# Altium footprint library Imperial_Thru_Hole.PcbLib: 76 footprints (part 3 of 5)
Each footprint in its own frame and in the unit in brackets; x right, y up, seen from the top. Pads: shape width x height; smd on the part's side, far side on the other; paste and mask are expansions set on the pad; w line width, h text height; cw(c..) or ccw(c..) is an arc to the next point about the centre after c.
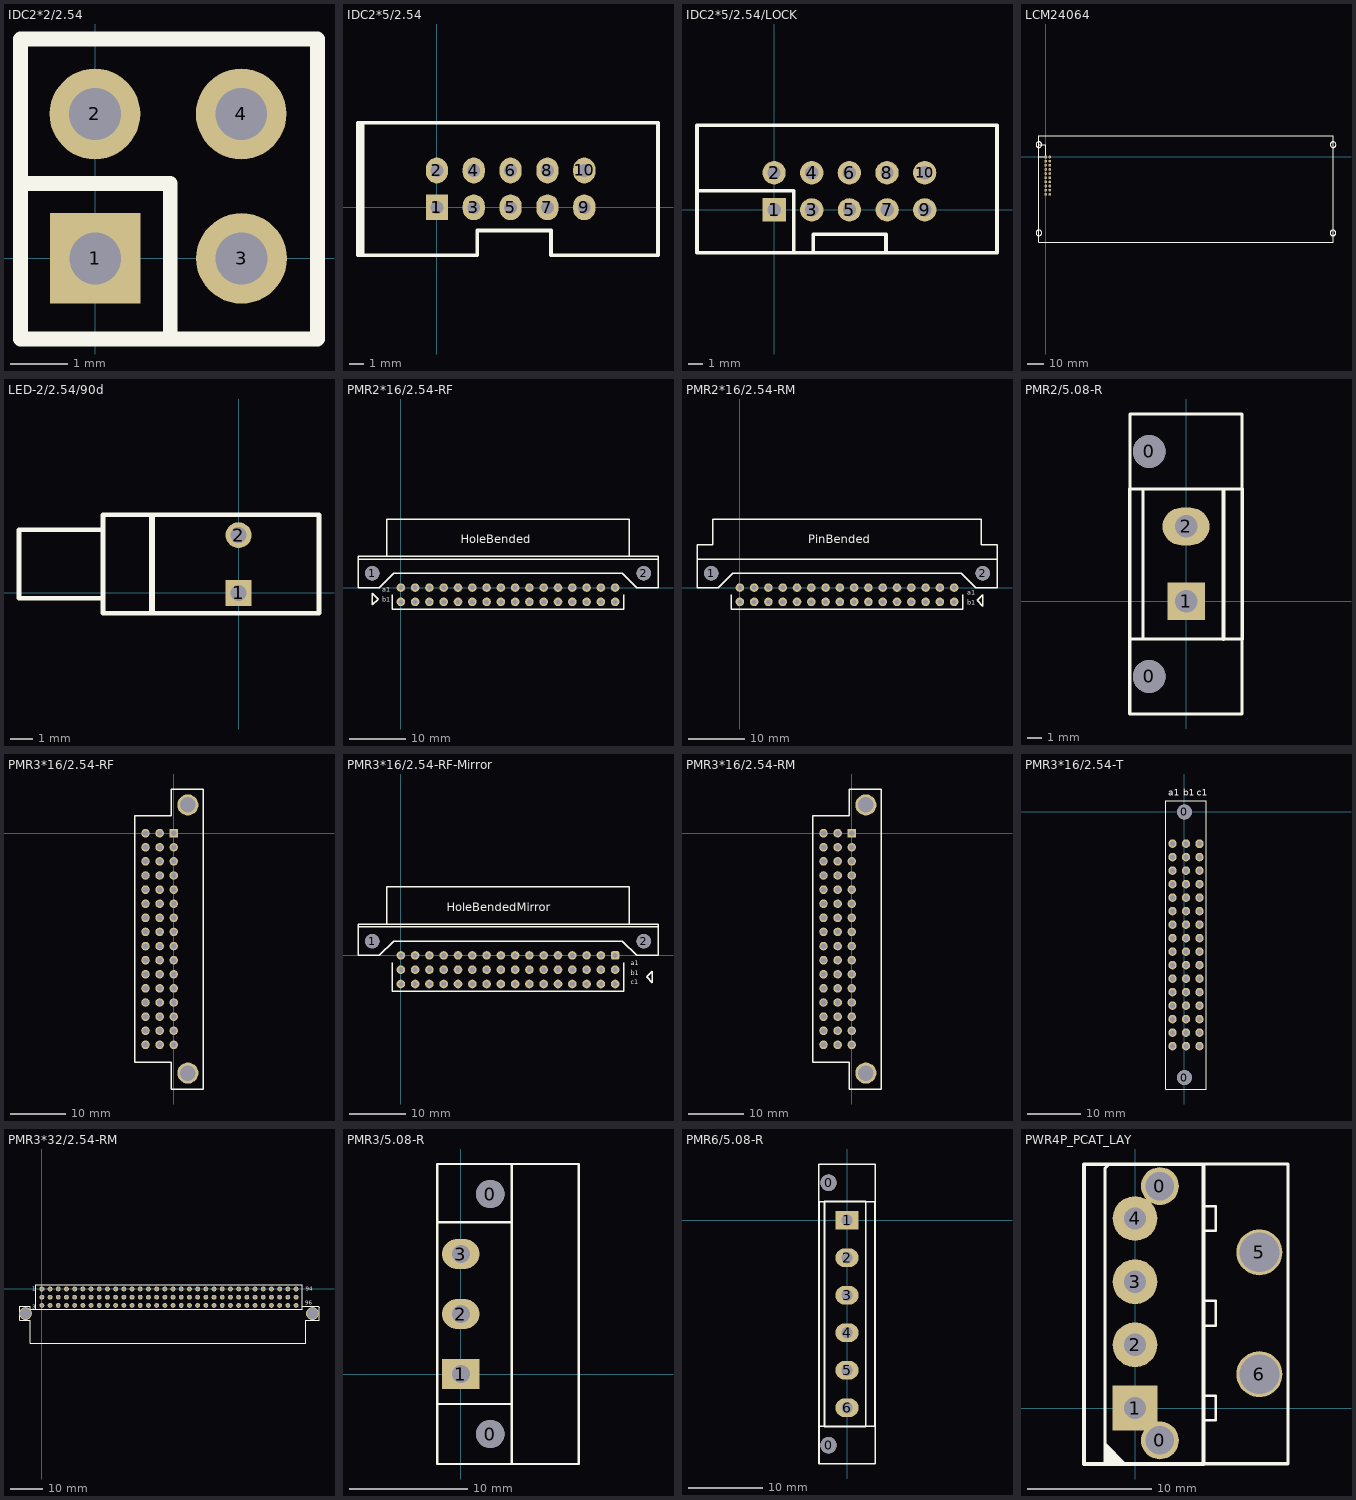
[diagram p2: the footprints below, top view; thin cyan lines are the x and y axes]

## IDC2*2/2.54 [mil] "2.54间距插针, 焊盘:外径1.57mm.孔径0.9mm"
height 314.96
pads (4):
  rect 62x62 hole 35.43: 1(0,0)
  round 62 hole 35.43: 2(-0.25,98.75) 3(100,0) 4(99.75,98.75)
Top Overlay:
  lines w10: -51.18,51.18 51.18,51.18 51.18,-55.12 ; -51.18,-55.12 -51.18,150 151.97,150 151.97,-55.12 -51.18,-55.12
3D body: height 30, standoff 0, extent 92.36,90.02 112.28,109.98
3D body: height 40, standoff 20, extent 52.36,50 151.97,149.8
3D body: height 30, standoff 0, extent -7.64,90.02 12.28,109.98
3D body: height 40, standoff 20, extent -47.24,49.8 52.36,149.61
3D body: height 30, standoff 0, extent 92.36,-9.98 112.28,9.98
3D body: height 40, standoff 20, extent 52.36,-50 151.97,49.8
3D body: height 30, standoff 0, extent -7.64,-9.98 12.28,9.98
3D body: height 40, standoff 20, extent -47.24,-49.8 52.36,50

## IDC2*5/2.54 [mil] "简易牛角座DC3 2.54MM间距 10P JTAG插座 特洛公司"
pads (10):
  rect 60x70 hole 35: 1(0,0)
  oval 60x70 hole 35: 2(0,100) 3(100,0) 4(100,100) 5(200,0) 6(200,100) 7(300,0) 8(300,100) 9(400,0) 10(400,100)
Top Overlay:
  lines w10: -208,-130 -208,229.57 ; -201.24,-130 -201.24,229.57 ; -214,-130 -214,229.57 599.76,229.57 600,229.33 600,-130 309.84,-130 309.84,-63 109.84,-63 109.84,-130 -214,-130
3D body "11903.stp": height 389.76, standoff -118.24, extent -200.24,-130.43 599.76,229.57

## IDC2*5/2.54/LOCK [mil] "2.54间距插针, 焊盘:外径1.57mm.孔径0.9mm"
height 314.96
pads (10):
  rect 62x62 hole 35.43: 1(0,0)
  round 62 hole 35.43: 2(-0.25,98.75) 3(100,0) 4(99.75,98.75) 5(200,0) 6(199.75,98.75) 7(300,0) 8(299.75,98.75) 9(400,0) 10(399.75,98.75)
Top Overlay:
  lines w10: -205,204 -205,225 592,225 592,-114 -205,-114 -205,221 ; -203,51 52,51 52,-102 52,-113 ; 104,-110 104,-65 297,-65 297,-114
3D body: height 200, standoff 10, extent 570,-110 600,230
3D body: height 200, standoff 10, extent 290,-120 600,-90
3D body: height 200, standoff 10, extent -210,200 600,230
3D body: height 200, standoff 10, extent -210,-110 -180,230
3D body: height 200, standoff 10, extent -210,-120 100,-90
3D body: height 40, standoff 0, extent 350,-50 449.61,49.8
3D body: height 220, standoff 20, extent 390.08,-9.98 410,9.98
3D body: height 40, standoff 0, extent 350,50 449.61,149.8
3D body: height 220, standoff 20, extent 390.08,90.02 410,109.98
3D body: height 40, standoff 0, extent 250,50 349.61,149.8
3D body: height 220, standoff 20, extent 290.08,90.02 310,109.98
3D body: height 40, standoff 0, extent 250,-50 349.61,49.8
3D body: height 220, standoff 20, extent 290.08,-9.98 310,9.98
3D body: height 40, standoff 0, extent 150,-50 249.61,49.8
3D body: height 220, standoff 20, extent 190.08,-9.98 210,9.98
3D body: height 40, standoff 0, extent 150,50 249.61,149.8
3D body: height 220, standoff 20, extent 190.08,90.02 210,109.98
3D body: height 40, standoff 0, extent 50,-50 149.61,49.8
3D body: height 220, standoff 20, extent 90.08,-9.98 110,9.98
3D body: height 40, standoff 0, extent 50,50 149.61,149.8
3D body: height 220, standoff 20, extent 90.08,90.02 110,109.98
3D body: height 40, standoff 0, extent -50,50 49.61,149.8
3D body: height 220, standoff 20, extent -9.92,90.02 10,109.98
3D body: height 40, standoff 0, extent -50,-50 49.61,49.8
3D body: height 220, standoff 20, extent -9.92,-9.98 10,9.98

## LCM24064 [mil] "LCM240x64"
height 275.59
pads (20):
  rect 66x66 hole 40: 1(0,0)
  round 66 hole 40: 2(100,0) 3(0,-100) 4(100,-100) 5(0,-200) 6(100,-200) 7(0,-300) 8(100,-300) 9(0,-400) 10(100,-400) 11(0,-500) 12(100,-500) 13(0,-600) 14(100,-600) 15(0,-700) 16(100,-700) 17(0,-800) 18(100,-800) 19(0,-900) 20(100,-900)
Top Overlay:
  circle w10: c-163.41,295.28 r68.87
  circle w10: c-163.41,-1830.71 r68.87
  circle w10: c6923.2,-1830.71 r68.87
  circle w10: c6927.14,295.28 r68.87
  lines w10: -161.42,-1830.71 -161.42,295.28 0,295.28 0,0 -161.42,0 ; -161.42,-921.26 -161.42,224.41 ; -161.42,-2051.18 -161.42,507.87 6925.2,507.87 6925.2,-2051.18 -161.42,-2051.18

## LED-2/2.54/90d [mil] "卧式LED座"
height 200
pads (2):
  rect 45x45 hole 28: 1(0,0)
  round 45 hole 28: 2(0,100)
Top Overlay:
  lines w8: -235.04,-9.05 -380.71,-9.05 -380.71,109.06 -235.04,109.06 ; -235.04,-35.43 -235.04,135.43 139.37,135.43 139.37,-35.43 -235.04,-35.43
  lines w10: -150,-30 -150,130
3D body: height 160, standoff 40, extent -200,-10 -80.63,109.49
3D body: height 340, standoff 1, extent -150,-40 70,130

## PMR2*16/2.54-RF [mil] "欧式9001-232双排16x2弯孔"
height 300
pads (34):
  round 100 hole 100: 1(-200,100) 2(1700,100)
  round 60 hole 36: A1(0,0) A2(100,0) A3(200,0) A4(300,0) A5(400,0) A6(500,0) A7(600,0) A8(700,0) A9(800,0) A10(900,0) A11(1000,0) A12(1100,0) A13(1200,0) A14(1300,0) A15(1400,0) A16(1500,0) B1(0,-100) B2(100,-100) B3(200,-100) B4(300,-100) B5(400,-100) B6(500,-100) B7(600,-100) B8(700,-100) B9(800,-100) B10(900,-100) B11(1000,-100) B12(1100,-100) B13(1200,-100) B14(1300,-100) B15(1400,-100) B16(1500,-100)
Top Overlay:
  lines w10: -100,220 -100,480 1600,480 1600,220 ; -60,-50 -60,-150 1560,-150 1560,-50 ; -300,200 -300,220 1800,220 1800,200 ; -300,200 -300,0 -150,0 -50,100 1550,100 1650,0 1800,0 1800,200 ; -300,200 1800,200 ; -200,-120 -200,-40 -160,-80 -200,-120
  text "a1" at -130,-30 h32
  text "b1" at -130,-100 h32
  text "HoleBended" at 420,310 h60
3D body: height 230, standoff 30, extent -100,220 1600,480
3D body: height 260, standoff 1, extent -300,0 1800,220
3D body: height 266, standoff 0, extent -239.84,70 -160.16,149.84
3D body: height 266, standoff 0, extent 1660.16,60 1739.84,139.84

## PMR2*16/2.54-RM [mil] "欧式9001-232双排16x2弯针"
height 300
pads (34):
  round 100 hole 100: 1(-200,100) 2(1700,100)
  round 60 hole 36: A1(1500,0) A2(1400,0) A3(1300,0) A4(1200,0) A5(1100,0) A6(1000,0) A7(900,0) A8(800,0) A9(700,0) A10(600,0) A11(500,0) A12(400,0) A13(300,0) A14(200,0) A15(100,0) A16(0,0) B1(1500,-100) B2(1400,-100) B3(1300,-100) B4(1200,-100) B5(1100,-100) B6(1000,-100) B7(900,-100) B8(800,-100) B9(700,-100) B10(600,-100) B11(500,-100) B12(400,-100) B13(300,-100) B14(200,-100) B15(100,-100) B16(0,-100)
Top Overlay:
  lines w10: -60,-50 -60,-150 1560,-150 1560,-50 ; -300,200 1800,200 ; -300,200 -300,0 -150,0 -50,100 1550,100 1650,0 1800,0 1800,200 ; -300,200 -300,300 -190,300 -190,480 1690,480 1690,300 1800,300 1800,200 ; 1660,-90 1700,-50 1700,-130 1660,-90
  text "a1" at 1590,-50 h32
  text "b1" at 1590,-120 h32
  text "PinBended" at 480,310 h60
3D body: height 266, standoff 0, extent -239.84,70 -160.16,149.84
3D body: height 266, standoff 0, extent 1660.16,60 1739.84,139.84
3D body: height 230, standoff 30, extent 1630,220 1680,480
3D body: height 260, standoff 1, extent -300,0 1800,220
3D body: height 230, standoff 30, extent -180,220 -130,480
3D body: height 70, standoff 30, extent -130,220 1630,480
3D body: height 230, standoff 190, extent -130,220 1630,480

## PMR2/5.08-R [mil]
pads (4):
  round 87 hole 87 unplated: 0(-98.42,-200) 0(-98.42,400)
  rect 100x100 hole 60: 1(0,0)
  oval 125x100 hole 60: 2(0,200)
Top Overlay:
  lines w8: -149,-300 -100,-300 100,-300 150,-300 150,-100 ; -115,-100 -115,300 ; -150,300 150,300 ; -150,300 150,300 ; -150,300 -150,500 -100,500 100,500 150,500 150,300 ; 150,-100 -150,-100 150,-100
  lines w10: -150,-299 -150,-100 -150,300 ; 100,-100 100,295 ; 150,-100 150,300

## PMR3*16/2.54-RF [mm]
height 10.6
pads (50):
  rect 1.54x1.54 hole 1: A1(0,0)
  round 1.54 hole 1: A2(0,-2.54) A3(0,-5.08) A4(0,-7.62) A5(0,-10.16) A6(0,-12.7) A7(0,-15.24) A8(0,-17.78) A9(0,-20.32) A10(0,-22.86) A11(0,-25.4) A12(0,-27.94) A13(0,-30.48) A14(0,-33.02) A15(0,-35.56) A16(0,-38.1) B1(-2.54,0) B2(-2.54,-2.54) B3(-2.54,-5.08) B4(-2.54,-7.62) B5(-2.54,-10.16) B6(-2.54,-12.7) B7(-2.54,-15.24) B8(-2.54,-17.78) B9(-2.54,-20.32) B10(-2.54,-22.86) B11(-2.54,-25.4) B12(-2.54,-27.94) B13(-2.54,-30.48) B14(-2.54,-33.02) B15(-2.54,-35.56) B16(-2.54,-38.1) C1(-5.08,0) C2(-5.08,-2.54) C3(-5.08,-5.08) C4(-5.08,-7.62) C5(-5.08,-10.16) C6(-5.08,-12.7) C7(-5.08,-15.24) C8(-5.08,-17.78) C9(-5.08,-20.32) C10(-5.08,-22.86) C11(-5.08,-25.4) C12(-5.08,-27.94) C13(-5.08,-30.48) C14(-5.08,-33.02) C15(-5.08,-35.56) C16(-5.08,-38.1)
  round 3.8 hole 2.8: ""(2.54,-43.18) ""(2.54,5.08)
Top Overlay:
  lines w0.254: -7,-41.25 -7,3.15 -0.46,3.15 -0.46,7.95 5.3,7.95 5.3,-46.05 -0.46,-46.05 -0.46,-41.25 -7,-41.25
Bottom Overlay:
  text "10" at 2.896,-23.317 h0.89
  text "5" at 2.54,-10.668 h0.89
  text "1" at 2.616,-0.457 h0.89
  text "16" at 2.54,-38.608 h0.89
  text "c" at -4.953,1.651 h0.89
  text "b" at -2.413,1.651 h0.89
  text "a" at 0.381,1.651 h0.89
3D body "0928_DIN_Type_2R_angled_female_48_pole.stp": height 2.55, standoff -9.6, extent -5.378,-46.001 12.642,7.899

## PMR3*16/2.54-RF-Mirror [mil] "欧式9001-348三排16x3弯孔,镜像用"
height 300
pads (50):
  round 100 hole 100: 1(-200,100) 2(1700,100)
  rrect50% 60x60 hole 36: A1(1500,0)
  round 60 hole 36: A2(1400,0) A3(1300,0) A4(1200,0) A5(1100,0) A6(1000,0) A7(900,0) A8(800,0) A9(700,0) A10(600,0) A11(500,0) A12(400,0) A13(300,0) A14(200,0) A15(100,0) A16(0,0) B1(1500,-100) B2(1400,-100) B3(1300,-100) B4(1200,-100) B5(1100,-100) B6(1000,-100) B7(900,-100) B8(800,-100) B9(700,-100) B10(600,-100) B11(500,-100) B12(400,-100) B13(300,-100) B14(200,-100) B15(100,-100) B16(0,-100) C1(1500,-200) C2(1400,-200) C3(1300,-200) C4(1200,-200) C5(1100,-200) C6(1000,-200) C7(900,-200) C8(800,-200) C9(700,-200) C10(600,-200) C11(500,-200) C12(400,-200) C13(300,-200) C14(200,-200) C15(100,-200) C16(0,-200)
Top Overlay:
  lines w10: -100,220 -100,480 1600,480 1600,220 ; -60,-50 -60,-250 1560,-250 1560,-50 ; -300,200 1800,200 ; -300,200 -300,0 -150,0 -50,100 1550,100 1650,0 1800,0 1800,200 ; -300,200 -300,220 1800,220 1800,200 ; 1720,-150 1760,-190 1760,-110 1720,-150
  text "c1" at 1610,-200 h32
  text "b1" at 1610,-140 h32
  text "a1" at 1610,-70 h32
  text "HoleBendedMirror" at 320,310 h60
3D body: height 366, standoff 0, extent 1660.16,60 1739.84,139.84
3D body: height 366, standoff 0, extent -239.84,70 -160.16,149.84
3D body: height 360, standoff 1, extent -300,0 1800,220
3D body: height 330, standoff 30, extent -100,220 1600,480

## PMR3*16/2.54-RM [mm]
height 10.6
pads (50):
  rect 1.54x1.54 hole 1: A1(0,0)
  round 1.54 hole 1: A2(0,-2.54) A3(0,-5.08) A4(0,-7.62) A5(0,-10.16) A6(0,-12.7) A7(0,-15.24) A8(0,-17.78) A9(0,-20.32) A10(0,-22.86) A11(0,-25.4) A12(0,-27.94) A13(0,-30.48) A14(0,-33.02) A15(0,-35.56) A16(0,-38.1) B1(-2.54,0) B2(-2.54,-2.54) B3(-2.54,-5.08) B4(-2.54,-7.62) B5(-2.54,-10.16) B6(-2.54,-12.7) B7(-2.54,-15.24) B8(-2.54,-17.78) B9(-2.54,-20.32) B10(-2.54,-22.86) B11(-2.54,-25.4) B12(-2.54,-27.94) B13(-2.54,-30.48) B14(-2.54,-33.02) B15(-2.54,-35.56) B16(-2.54,-38.1) C1(-5.08,0) C2(-5.08,-2.54) C3(-5.08,-5.08) C4(-5.08,-7.62) C5(-5.08,-10.16) C6(-5.08,-12.7) C7(-5.08,-15.24) C8(-5.08,-17.78) C9(-5.08,-20.32) C10(-5.08,-22.86) C11(-5.08,-25.4) C12(-5.08,-27.94) C13(-5.08,-30.48) C14(-5.08,-33.02) C15(-5.08,-35.56) C16(-5.08,-38.1)
  round 3.8 hole 2.8: ""(2.54,-43.18) ""(2.54,5.08)
Top Overlay:
  lines w0.254: -7,-41.25 -7,3.15 -0.46,3.15 -0.46,7.95 5.3,7.95 5.3,-46.05 -0.46,-46.05 -0.46,-41.25 -7,-41.25
Bottom Overlay:
  text "16" at 2.921,-38.608 h0.89
  text "1" at 2.286,-0.508 h0.89
  text "c" at -4.953,1.524 h0.89
  text "b" at -2.413,1.524 h0.89
  text "a" at 0.381,1.524 h0.89
  text "5" at 2.54,-10.668 h0.89
  text "10" at 3.277,-23.317 h0.89
3D body "0923_DIN_Type_2C_angled_male_48_pole.stp": height 9.35, standoff -3, extent -5.378,-46.101 12.642,7.899

## PMR3*16/2.54-T [mm]
pads (50):
  round 2.8 hole 2.8 unplated: 0(0,-50) 0(0,0)
  round 1.575 hole 1: A1(-2.24,-5.959) A2(-2.24,-8.499) A3(-2.24,-11.039) A4(-2.24,-13.579) A5(-2.24,-16.119) A6(-2.24,-18.659) A7(-2.24,-21.199) A8(-2.24,-23.739) A9(-2.24,-26.279) A10(-2.24,-28.819) A11(-2.24,-31.359) A12(-2.24,-33.899) A13(-2.24,-36.439) A14(-2.24,-38.979) A15(-2.24,-41.519) A16(-2.24,-44.059) B1(0.3,-5.959) B2(0.3,-8.499) B3(0.3,-11.039) B4(0.3,-13.579) B5(0.3,-16.119) B6(0.3,-18.659) B7(0.3,-21.199) B8(0.3,-23.739) B9(0.3,-26.279) B10(0.3,-28.819) B11(0.3,-31.359) B12(0.3,-33.899) B13(0.3,-36.439) B14(0.3,-38.979) B15(0.3,-41.519) B16(0.3,-44.059) C2(2.84,-8.499) C3(2.84,-11.039) C4(2.84,-13.579) C5(2.84,-16.119) C6(2.84,-18.659) C7(2.84,-21.199) C8(2.84,-23.739) C9(2.84,-26.279) C10(2.84,-28.819) C11(2.84,-31.359) C12(2.84,-33.899) C13(2.84,-36.439) C14(2.84,-38.979) C15(2.84,-41.519) C16(2.84,-44.059)
  oct 1.575x1.575 hole 1: C1(2.84,-5.959)
Top Overlay:
  lines w0.203: -3.51,-52.129 -3.51,2.111 4.11,2.111 4.11,-52.129 -3.51,-52.129
  text "a1" at -3.048,3.048 h1.27
  text "b1" at -0.254,3.048 h1.27
  text "c1" at 2.286,3.048 h1.27

## PMR3*32/2.54-RM [mm] "96pin三排2.54插针, 焊盘: 外径1.5mm,孔径0.9mm"
height 10
pads (98):
  oct 1.5x1.5 hole 0.9: 1(0,0)
  round 1.5 hole 0.9: 2(0,-2.54) 3(0,-5.08) 4(2.54,0) 5(2.54,-2.54) 6(2.54,-5.08) 7(5.08,0) 8(5.08,-2.54) 9(5.08,-5.08) 10(7.62,0) 11(7.62,-2.54) 12(7.62,-5.08) 13(10.16,0) 14(10.16,-2.54) 15(10.16,-5.08) 16(12.7,0) 17(12.7,-2.54) 18(12.7,-5.08) 19(15.24,0) 20(15.24,-2.54) 21(15.24,-5.08) 22(17.78,0) 23(17.78,-2.54) 24(17.78,-5.08) 25(20.32,0) 26(20.32,-2.54) 27(20.32,-5.08) 28(22.86,0) 29(22.86,-2.54) 30(22.86,-5.08) 31(25.4,0) 32(25.4,-2.54) 33(25.4,-5.08) 34(27.94,0) 35(27.94,-2.54) 36(27.94,-5.08) 37(30.48,0) 38(30.48,-2.54) 39(30.48,-5.08) 40(33.02,0) 41(33.02,-2.54) 42(33.02,-5.08) 43(35.56,0) 44(35.56,-2.54) 45(35.56,-5.08) 46(38.1,0) 47(38.1,-2.54) 48(38.1,-5.08) 49(40.64,0) 50(40.64,-2.54) 51(40.64,-5.08) 52(43.18,0) 53(43.18,-2.54) 54(43.18,-5.08) 55(45.72,0) 56(45.72,-2.54) 57(45.72,-5.08) 58(48.26,0) 59(48.26,-2.54) 60(48.26,-5.08) 61(50.8,0) 62(50.8,-2.54) 63(50.8,-5.08) 64(53.34,0) 65(53.34,-2.54) 66(53.34,-5.08) 67(55.88,0) 68(55.88,-2.54) 69(55.88,-5.08) 70(58.42,0) 71(58.42,-2.54) 72(58.42,-5.08) 73(60.96,0) 74(60.96,-2.54) 75(60.96,-5.08) 76(63.5,0) 77(63.5,-2.54) 78(63.5,-5.08) 79(66.04,0) 80(66.04,-2.54) 81(66.04,-5.08) 82(68.58,0) 83(68.58,-2.54) 84(68.58,-5.08) 85(71.12,0) 86(71.12,-2.54) 87(71.12,-5.08) 88(73.66,0) 89(73.66,-2.54) 90(73.66,-5.08) 91(76.2,0) 92(76.2,-2.54) 93(76.2,-5.08) 94(78.74,0) 95(78.74,-2.54) 96(78.74,-5.08)
  round 4 hole 3.5: sw1(-5.08,-7.62) sw2(83.82,-7.62)
Top Overlay:
  lines w0.203: -1.905,-6.35 -1.905,1.27 80.645,1.27 80.645,-6.35 -1.905,-6.35
  lines w0.254: -1.905,-6.35 -3.556,-6.35 -3.556,-5.334 -6.858,-5.334 -6.858,-9.652 -3.556,-9.652 -3.556,-16.764 81.788,-16.764 81.788,-9.906 81.788,-9.652 85.852,-9.652 85.852,-5.588 85.598,-5.334 80.645,-5.334
  text "1" at -3.048,-0.508 h1.27
  text "3" at -3.048,-6.096 h1.27
  text "96" at 81.534,-4.826 h1.27
  text "94" at 81.788,-0.508 h1.27

## PMR3/5.08-R [mm]
height 8.6
pads (5):
  round 2.4 hole 2.4 unplated: 0(2.5,-5.08) 0(2.5,15.24)
  rect 3.175x2.54 hole 1.524: 1(0,0)
  oval 3.175x2.54 hole 1.524: 2(0,5.08) 3(0,10.16)
Top Overlay:
  lines w0.2: -2,-2.54 4.318,-2.54 ; 4.318,17.78 4.318,12.836 ; -2,12.836 -2,-7.62 4.318,-7.62 ; -2,12.836 -2,17.78 10,17.78 10,-7.62 4.318,-7.62 ; -2,12.836 2.54,12.836 4.318,12.836 ; 4.318,-7.62 4.318,-2.081 4.318,12.836
3D body "1795679.stp": height 9.1, standoff -3, extent -1.92,-7.64 10.082,17.76

## PMR6/5.08-R [mil]
pads (8):
  round 87 hole 87 unplated: 0(-98.42,-1200) 0(-98.42,200)
  rect 125x100 hole 60: 1(0,0)
  oval 125x100 hole 60: 2(0,-200) 3(0,-400) 4(0,-600) 5(0,-800) 6(0,-1000)
Top Overlay:
  lines w8: -149,-1300 -100,-1300 100,-1300 150,-1300 150,-1100 ; -150,100 150,100 ; -150,100 -150,300 -100,300 100,300 150,300 150,100 ; -150,100 150,100 ; 150,-1100 -150,-1100 150,-1100
  lines w10: -150,-1299 -150,-1100 -150,100 ; 150,-1100 150,100 ; -120,-1100 -120,100 100,100 100,-1100 -120,-1100

## PWR4P_PCAT_LAY [mm] "PCAT 4PIN电源插座,卧式"
height 4
pads (8):
  round 3.048 hole 2.286: 0(2,-2.6) 0(2,17.84)
  rect 3.6x3.6 hole 1.8: 1(0,0)
  round 3.6 hole 1.8: 2(0,5.08) 3(0,10.16) 4(0,15.24)
  round 3.7 hole 3.2: 5(10,12.52) 6(10,2.72)
Top Overlay:
  lines w0.2: 5.5,-1 6.5,-1 6.5,1 5.5,1 ; 5.5,6.62 6.5,6.62 6.5,8.62 5.5,8.62 ; 5.5,14.24 6.5,14.24 6.5,16.24 5.5,16.24
  lines w0.254: -2.4,-4.5 -2.4,19.3 -2.1,19.6 5.5,19.6 ; -2.4,-4.2 -2.12,-4.48 5.5,-4.48 12.3,-4.48 12.3,19.62 5.3,19.62 ; -2.4,-3.9 -1.82,-4.48 ; -2.4,-3.6 -1.6,-4.4 ; -2.4,-3.1 -1.02,-4.48 ; -2.4,-2.9 -0.8,-4.5 ; -2.38,-3.4 -1.3,-4.48
  lines w0.3: -4.1,-4.5 5.5,-4.5 5.5,19.6 -4.1,19.6 -4.1,-4.5